# Altium integrated library PT7M7811.IntLib: 1 symbol
Pins are listed as number, name and electrical type; pins without a type are passive.

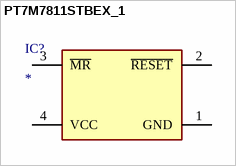
[diagram p0: symbol PT7M7811STBEX_1]

## PT7M7811STBEX_1
designator IC?
Integrated Circuit; Manufacturer_Name: Diodes Inc.; Manufacturer_Part_Number: PT7M7811STBEX; Datasheet Link: https://datasheet.datasheetarchive.com/originals/distributors/Datasheets_SAMA/70e2b3bf34358a70c4e0b24b2fd2675f.pdf; Mouser Part Number: 729-PT7M7811STBEX; Mouser Price/Stock: https://www.mouser.com/Search/Refine.aspx?Keyword=729-PT7M7811STBEX; Arrow Part Number: PT7M7811STBEX; Arrow Price/Stock: https://www.arrow.com/en/products/pt7m7811stbex/diodes-incorporated
footprint SOT143
pins: 1 GND, 2 ~{RESET}, 3 ~{MR}, 4 VCC